# EAGLE library part AMPMODU-5-146131-X(5X2) (library GTEEL_gwu_mpnl_ucat_v10)
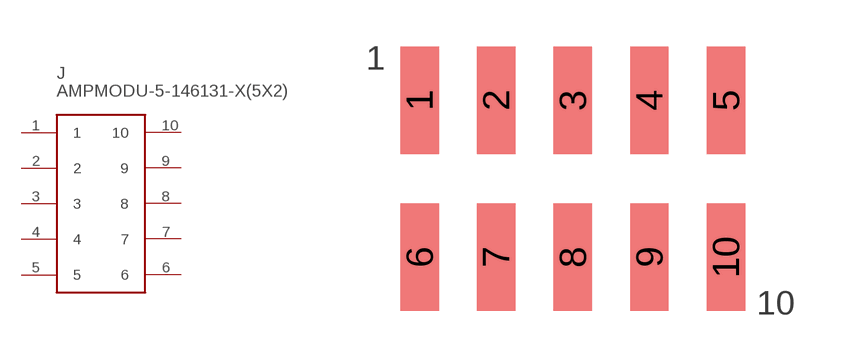
[diagram p6: symbol with the pads of AMPMODU-SMT-PIN-HEADER-5X2; footprint AMPMODU-SMT-PIN-HEADER-5X2]

Designator prefix J

## AMPMODU-5-146131-X(5X2) (MF: AMPMODU; MPN: 146131-4)  [AMPMODU-SMT-PIN-HEADER-5X2]
1  1
2  2
3  3
4  4
5  5
6  6
7  7
8  8
9  9
10  10

## Footprint AMPMODU-SMT-PIN-HEADER-5X2 (pad centres in mm)
smd 1.27 x 3.556: 1 -4.826,2.54; 2 -2.286,2.54; 3 0.254,2.54; 4 2.794,2.54; 5 5.334,2.54; 6 -4.826,-2.667; 7 -2.286,-2.667; 8 0.254,-2.667; 9 2.794,-2.667; 10 5.334,-2.667